# Altium footprint library DZ_LIB.PcbLib: 89 footprints (part 3 of 6)
Each footprint in its own frame and in the unit in brackets; x right, y up, seen from the top. Pads: shape width x height; smd on the part's side, far side on the other; paste and mask are expansions set on the pad; w line width, h text height; cw(c..) or ccw(c..) is an arc to the next point about the centre after c.
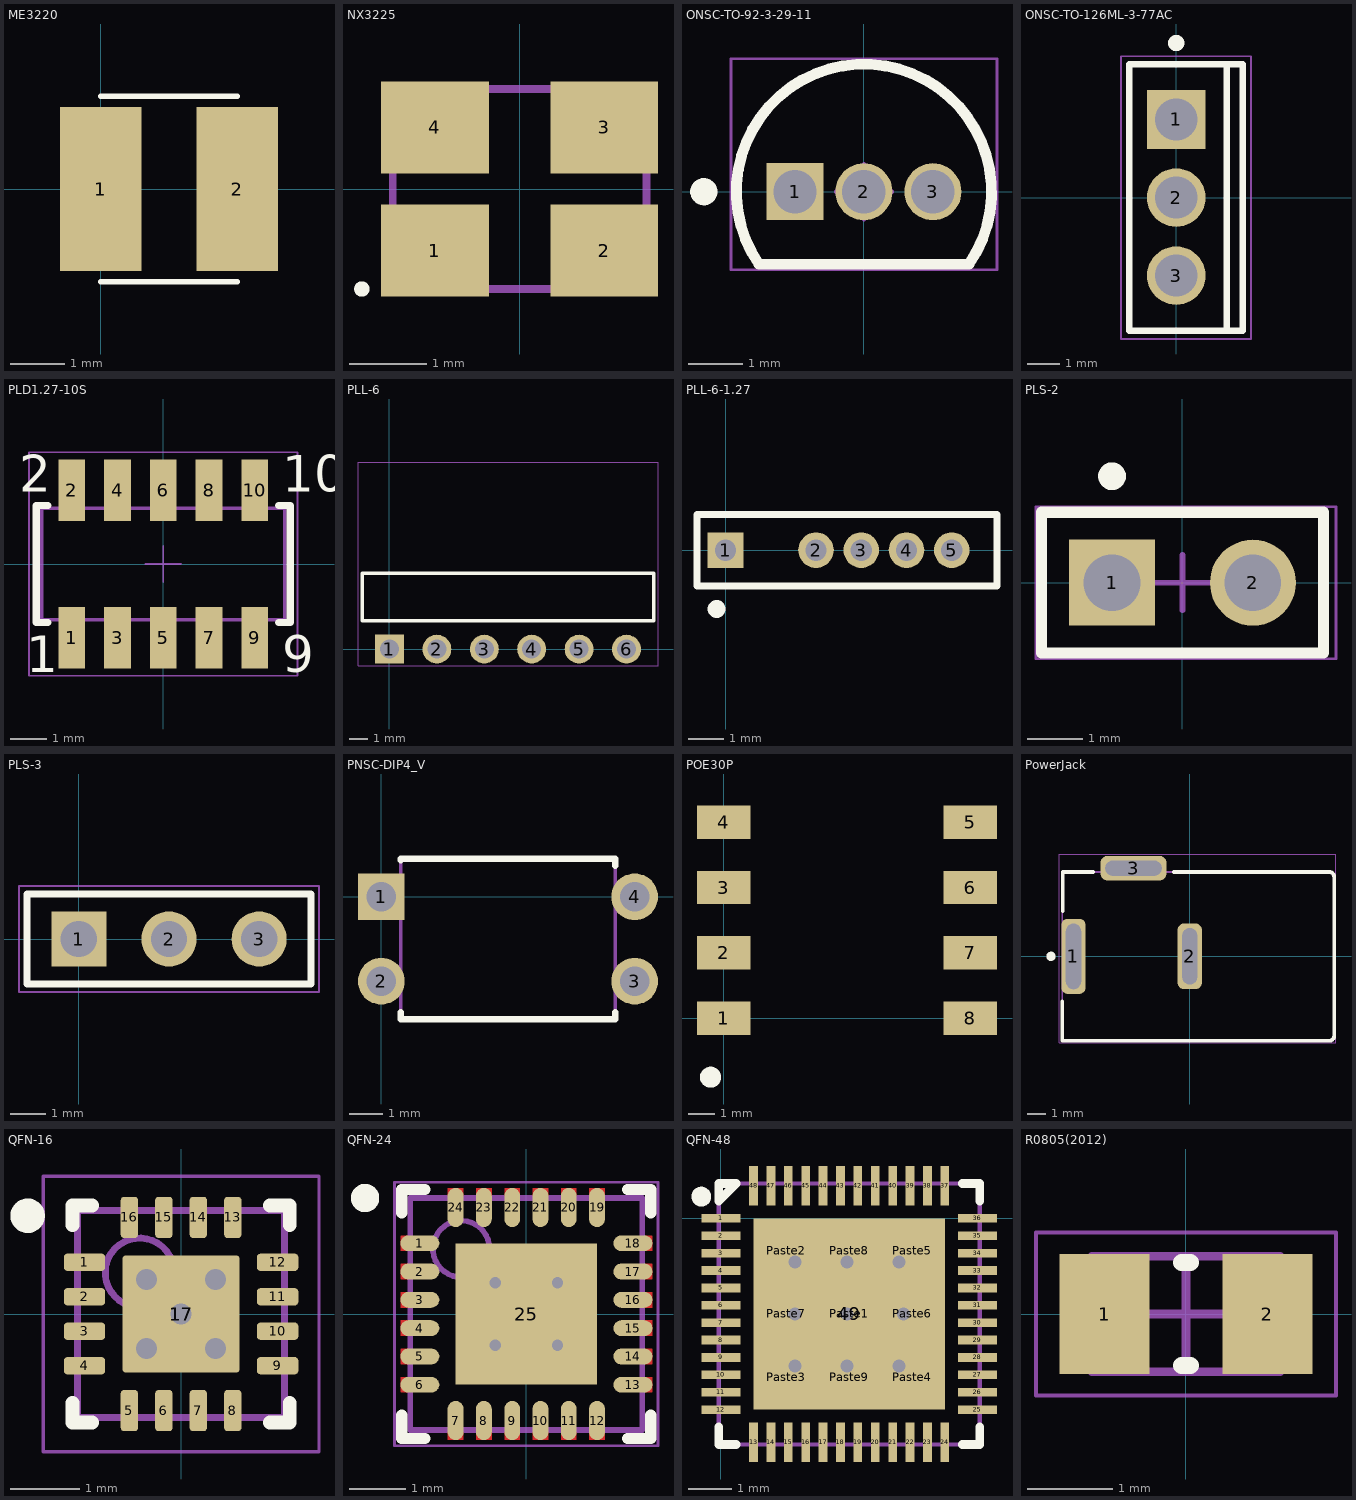
[diagram p2: the footprints below, top view; thin cyan lines are the x and y axes]

## ME3220 [mm]
pads (2):
  rect 1.5x3 smd: 1(0,0) 2(2.5,0)
Top Overlay:
  lines w0.1: 0,-1.7 2.5,-1.7 ; 0,1.7 2.5,1.7
3D body "Coilcraft-ME3220.step": height 2.4, standoff 0, extent -0.5,-1.4 3,1.4

## NX3225 [mm]
height 0.9
pads (4):
  rect 1.4x1.2 smd: 1(-1.1,-0.8) 2(1.1,-0.8) 3(1.1,0.8) 4(-1.1,0.8)
Top Overlay:
  circle w0.1: c-2.05,-1.3 r0.05
Mechanical 1:
  circle w0.254: c-1.3,-0.9 r0.1
  lines w0.1: -1.65,-1.3 1.65,-1.3 1.65,1.3 -1.65,1.3 -1.65,-1.3
3D body: height 0.9, standoff 0, extent -1.65,-1.3 1.65,1.3

## ONSC-TO-92-3-29-11 [mm] "TO, 3-Leads, Body Dia 4.7mm, Pitch 1.27mm"
height 7.87
pads (3):
  rect 1.05x1.05 hole 0.8: 1(-1.27,0)
  round 1.05 hole 0.8: 2(0,0) 3(1.27,0)
Top Overlay:
  circle w0.25: c-2.95,0 r0.125
  lines w0.2: -1.934,-1.335 cw(c0,0) 1.934,-1.335 -1.934,-1.335
Mechanical 13:
  lines w0.1: -1.934,-1.335 cw(c0,0) 1.934,-1.335 -1.934,-1.335
Mechanical 15:
  lines w0.05: -2.45,-1.435 -2.45,2.45 2.45,2.45 2.45,-1.435 -2.45,-1.435
  lines w0.1: -0.5,0 0.5,0 ; 0,-0.5 0,0.5
3D body: height 7.87, standoff 2.54, extent -2.349,-1.334 2.357,2.359

## ONSC-TO-126ML-3-77AC [mm] "FM, 3-Leads, Body 8.2x3.5mm, Pitch 2.4mm"
height 12.5
pads (3):
  rect 1.8x1.8 hole 1.3: 1(0,2.4)
  round 1.8 hole 1.3: 2(0,0) 3(0,-2.4)
Top Overlay:
  circle w0.25: c0,4.75 r0.125
  lines w0.2: 1.55,-4.1 1.55,4.1 ; -1.45,-4.1 2.05,-4.1 2.05,4.1 -1.45,4.1 -1.45,-4.1
Mechanical 13:
  lines w0.1: 2.05,-4.1 2.05,4.1 ; 2.05,-4.1 -1.45,-4.1 -1.45,4.1 2.05,4.1 ; 2.05,-4.1 2.05,4.1
Mechanical 15:
  lines w0.05: -1.7,-4.35 -1.7,4.35 2.3,4.35 2.3,-4.35 -1.7,-4.35
  lines w0.1: -0.5,0 0.5,0 ; 0,-0.5 0,0.5
3D body: height 1.2, standoff 0, extent -0.35,1.6 0.35,3.2
3D body: height 0, standoff -1.6, extent -0.35,2 0.35,2.8
3D body: height 1.2, standoff 0, extent -0.35,-0.8 0.35,0.8
3D body: height 0, standoff -1.6, extent -0.35,-0.4 0.35,0.4
3D body: height 1.2, standoff 0, extent -0.35,-3.2 0.35,-1.6
3D body: height 0, standoff -1.6, extent -0.35,-2.8 0.35,-2
3D body: height 12.5, standoff 1.2, extent -1.45,-4.1 2.05,4.1
3D body: height 13.1, standoff 13.1, extent 2.05,-4 2.05,4

## PLD1.27-10S [mm] "Socket Header, Pitch 1.27 mm, SMT, Vertical, dual row, 10p"
height 4.7
pads (10):
  rect 0.74x1.7 smd: 1(-2.54,-2.05) 2(-2.54,2.05) 3(-1.27,-2.05) 4(-1.27,2.05) 5(0,-2.05) 6(0,2.05) 7(1.27,-2.05) 8(1.27,2.05) 9(2.54,-2.05) 10(2.54,2.05)
Top Overlay:
  lines w0.2: -3.205,-1.625 -3.525,-1.625 -3.525,1.625 -3.205,1.625 ; 3.205,-1.625 3.525,-1.625 3.525,1.625 3.205,1.625
  text "2" at -4.005,2 h1.02
  text "1" at -3.805,-3 h1.02
  text "9" at 3.305,-3 h1.02
  text "10" at 3.305,2 h1.02
Mechanical 13:
  lines w0.1: -2.79,-1.55 -2.79,-2.3 -2.29,-2.3 -2.29,-1.55 ; -2.79,1.55 -2.79,2.3 -2.29,2.3 -2.29,1.55 ; -1.52,-1.55 -1.52,-2.3 -1.02,-2.3 -1.02,-1.55 ; -1.52,1.55 -1.52,2.3 -1.02,2.3 -1.02,1.55 ; -0.25,-1.55 -0.25,-2.3 0.25,-2.3 0.25,-1.55 ; -0.25,1.55 -0.25,2.3 0.25,2.3 0.25,1.55 ; 1.02,-1.55 1.02,-2.3 1.52,-2.3 1.52,-1.55 ; 1.02,1.55 1.02,2.3 1.52,2.3 1.52,1.55 ; 2.29,-1.55 2.29,-2.3 2.79,-2.3 2.79,-1.55 ; 2.29,1.55 2.29,2.3 2.79,2.3 2.79,1.55 ; -3.375,-1.55 3.375,-1.55 3.375,1.55 -3.375,1.55 -3.375,-1.55
Mechanical 15:
  lines w0.05: -0.5,0 0.5,0 ; 0,-0.5 0,0.5 ; -3.725,-3.1 -3.725,3.1 3.725,3.1 3.725,-3.1 -3.725,-3.1
3D body "62301021021.stp": height 4.6, standoff 0, extent -3.375,-2.299 3.375,2.299

## PLL-6 [mm] ".025 SQ Post Terminal Strip Assembly, 1x6 Pins, Right Angle, 2.54mm Pitch, Male"
height 3.02
pads (6):
  rect 1.55x1.55 hole 1.02: 1(0,0)
  round 1.55 hole 1.02: 2(2.54,0) 3(5.08,0) 4(7.62,0) 5(10.16,0) 6(12.7,0)
Top Overlay:
  lines w0.2: -1.46,1.52 -1.46,4.06 14.16,4.06 14.16,1.52 -1.46,1.52
Mechanical 13:
  lines w0.1: -1.46,1.52 -1.46,4.06 14.16,4.06 14.16,1.52 -1.46,1.52
Mechanical 15:
  lines w0.05: -1.685,-0.9 -1.685,10.025 14.385,10.025 14.385,-0.9 -1.685,-0.9
3D body "TSW-106-08-X-S-RA.step": height 3.05, standoff -2.29, extent -1.27,-0.323 13.97,9.9

## PLL-6-1.27 [mm] "Male Header, Pitch 1.27mm, 1x6"
height 4.3
pads (5):
  rect 1x1 hole 0.6: 1(0,0)
  round 1 hole 0.6: 2(2.54,0) 3(3.81,0) 4(5.08,0) 5(6.35,0)
Top Overlay:
  circle w0.25: c-0.252,-1.65 r0.125
  lines w0.2: -0.8,-1 -0.8,1 7.62,1 7.62,-1 -0.8,-1

## PLS-2 [mm] "Header, 2-Leads, Body 5.08x2.54mm, Pitch 2.54mm"
height 8.38
pads (2):
  rect 1.55x1.55 hole 1.02: 1(-1.27,0)
  round 1.55 hole 1.02: 2(1.27,0)
Top Overlay:
  circle w0.25: c-1.27,1.92 r0.125
  lines w0.2: -2.54,-1.27 2.54,-1.27 2.54,1.27 -2.54,1.27 -2.54,-1.27
Mechanical 13:
  lines w0.1: -2.54,-1.27 2.54,-1.27 2.54,1.27 -2.54,1.27 -2.54,-1.27
Mechanical 15:
  lines w0.05: -2.64,-1.37 -2.64,1.37 2.767,1.37 2.767,-1.37 -2.64,-1.37
  lines w0.1: -0.5,0 0.5,0 ; 0,-0.5 0,0.5
3D body "TSW-102-07-S-S.stp": height 8.38, standoff -2.54, extent -2.54,-1.27 2.667,1.27

## PLS-3 [mm] ".025 SQ Post Terminal Strip Assembly, 1x3 Pins, Vertical, 2.54mm Pitch, Male"
height 8.58
pads (3):
  rect 1.55x1.55 hole 1.02: 1(0,0)
  round 1.55 hole 1.02: 2(2.54,0) 3(5.08,0)
Top Overlay:
  lines w0.2: -1.46,-1.27 6.54,-1.27 6.54,1.27 -1.46,1.27 -1.46,-1.27
Mechanical 13:
  lines w0.1: -1.46,-1.27 6.54,-1.27 6.54,1.27 -1.46,1.27 -1.46,-1.27
Mechanical 15:
  lines w0.05: -1.685,-1.495 6.765,-1.495 6.765,1.495 -1.685,1.495 -1.685,-1.495
3D body "TSW-103-07-X-S.step": height 8.38, standoff -2.54, extent -1.27,-1.27 6.35,1.27

## PNSC-DIP4_V [mm] "DIP, 4-Leads, Body 6.45x4.83mm, Pitch2.54 mm"
height 3.4
pads (4):
  rect 1.4x1.4 hole 0.9 mask+0.102: 1(0,0)
  round 1.4 hole 0.9 mask+0.102: 2(0,-2.54) 3(7.62,-2.54) 4(7.62,0)
Top Overlay:
  lines w0.2: 0.585,-3.472 0.585,-3.685 7.035,-3.685 7.035,-3.472 ; 0.585,1.1 0.585,1.145 7.035,1.145 7.035,0.932
Mechanical 13:
  lines w0.1: 0.585,-3.685 7.035,-3.685 7.035,1.145 0.585,1.145 0.585,-3.685
3D body: height 3.4, standoff 0.2, extent 0.585,-3.685 7.035,1.145

## POE30P [mil]
pads (8):
  rect 80x50 smd: 1(0,0) 2(0,98) 3(0,196) 4(0,294) 5(370,294) 6(370,196) 7(370,98) 8(370,0)
Top Overlay:
  circle w15.75: c-19.68,-88.58 r7.87
3D body "Coilcraft-POE30P-50L.step": height 355.12, standoff 0, extent -67.01,-67.33 452.68,362.6

## PowerJack [mm] "Power Jack, 3-Leads, Body 14.5x9mm"
height 11.1
pads (3):
  rrect50% 1.3x4 hole 0.8 slot 3.5 at 90 deg: 1(-6.2,0)
  rrect50% 1.3x3.5 hole 0.8 slot 3 at 90 deg: 2(0,0)
  rrect50% 3.5x1.3 hole 0.8 slot 3 at 0 deg: 3(-3,4.7)
Top Overlay:
  circle w0.25: c-7.4,0 r0.125
  lines w0.2: -6.8,-4.5 -6.8,-2.4 ; -6.78,-4.5 7.45,-4.5 ccw(c7.45,-4.25) 7.7,-4.25 7.7,4.25 ccw(c7.45,4.25) 7.45,4.5 -0.85,4.5 ; -6.78,2.4 -6.78,4.5 -5.15,4.5
Mechanical 13:
  lines w0.1: -6.8,-4.5 -6.8,4.5 7.45,4.5 cw(c7.45,4.25) 7.7,4.25 7.7,-4.25 cw(c7.45,-4.25) 7.45,-4.5 -6.8,-4.5
Mechanical 15:
  lines w0.05: -6.95,-4.6 7.8,-4.6 7.8,5.45 -6.95,5.45 -6.95,-4.6
  lines w0.1: -0.5,0 0.5,0 ; 0,-0.5 0,0.5
3D body "KLDX-0202-A_rD2.STEP": height 10.8, standoff -4.1, extent -6.8,-4.5 7.7,4.9

## QFN-16 [mm] "QFN, 16-Leads, Body 3x3mm, Pitch 0.5mm, Thermal Pad 1.65x1.65mm"
height 1
pads (18):
  rrect40% 0.6x0.25 smd: 1(-1.4,0.75) 2(-1.4,0.25) 3(-1.4,-0.25) 4(-1.4,-0.75) 9(1.4,-0.75) 10(1.4,-0.25) 11(1.4,0.25) 12(1.4,0.75)
  rrect40% 0.25x0.6 smd: 5(-0.75,-1.4) 6(-0.25,-1.4) 7(0.25,-1.4) 8(0.75,-1.4) 13(0.75,1.4) 14(0.25,1.4) 15(-0.25,1.4) 16(-0.75,1.4)
  rrect6% 1.55x1.55 on Top Paste: 17(0,0)
  rrect6% 1.7x1.7 smd paste-0.85: 17(0,0)
via -0.5,-0.5 diameter 0.5 hole 0.3
via -0.5,0.5 diameter 0.5 hole 0.3
via 0.5,0.5 diameter 0.5 hole 0.3
via 0.5,-0.5 diameter 0.5 hole 0.3
via 0,0 diameter 0.5 hole 0.3
Top Overlay:
  circle w0.25: c-2.225,1.425 r0.125
  lines w0.2: -1.575,-1.29 -1.575,-1.575 -1.29,-1.575 ; -1.575,1.29 -1.575,1.575 -1.29,1.575 ; 1.29,-1.575 1.575,-1.575 1.575,-1.29 ; 1.29,1.575 1.575,1.575 1.575,1.29
Mechanical 13:
  circle w0.1: c-0.6,0.6 r0.5
  lines w0.1: -1.5,-1.5 -1.5,1.5 1.5,1.5 1.5,-1.5 -1.5,-1.5
Mechanical 15:
  lines w0.05: -2,-2 -2,2 2,2 2,-2 -2,-2
  lines w0.1: -0.5,0 0.5,0 ; 0,-0.5 0,0.5
3D body: height 1, standoff 0, extent -1.5,-1.5 1.5,1.5

## QFN-24 [mm] "QFN, 24-Leads, Body 4.1x4.1mm, Pitch 0.5mm, Thermal Pad 2.50x2.50mm"
height 1
pads (25):
  oval 0.69x0.28 smd: 1(-1.882,1.25) 2(-1.882,0.75) 3(-1.882,0.25) 4(-1.882,-0.25) 5(-1.882,-0.75) 6(-1.882,-1.25) 13(1.883,-1.25) 14(1.883,-0.75) 15(1.883,-0.25) 16(1.883,0.25) 17(1.883,0.75) 18(1.883,1.25)
  oval 0.28x0.69 smd: 7(-1.25,-1.882) 8(-0.75,-1.882) 9(-0.25,-1.882) 10(0.25,-1.882) 11(0.75,-1.882) 12(1.25,-1.882) 19(1.25,1.883) 20(0.75,1.883) 21(0.25,1.883) 22(-0.25,1.883) 23(-0.75,1.883) 24(-1.25,1.883)
  rect 2.5x2.5 smd paste-2: 25(0,0)
via 0.55,-0.55 diameter 0.5 hole 0.2
via -0.55,-0.55 diameter 0.5 hole 0.2
via 0.55,0.55 diameter 0.5 hole 0.2
via -0.55,0.55 diameter 0.5 hole 0.2
Top Layer:
  region: -2.087,1.11 -2.087,1.39 -2.227,1.39 -2.227,1.11
  region: -2.087,0.61 -2.087,0.89 -2.227,0.89 -2.227,0.61
  region: -2.087,0.11 -2.087,0.39 -2.227,0.39 -2.227,0.11
  region: -2.087,-0.39 -2.087,-0.11 -2.227,-0.11 -2.227,-0.39
  region: -2.087,-0.89 -2.087,-0.61 -2.227,-0.61 -2.227,-0.89
  region: -2.087,-1.39 -2.087,-1.11 -2.227,-1.11 -2.227,-1.39
  region: -1.11,-2.087 -1.39,-2.087 -1.39,-2.227 -1.11,-2.227
  region: -0.61,-2.087 -0.89,-2.087 -0.89,-2.227 -0.61,-2.227
  region: -0.11,-2.087 -0.39,-2.087 -0.39,-2.227 -0.11,-2.227
  region: 0.39,-2.087 0.11,-2.087 0.11,-2.227 0.39,-2.227
  region: 0.89,-2.087 0.61,-2.087 0.61,-2.227 0.89,-2.227
  region: 1.39,-2.087 1.11,-2.087 1.11,-2.227 1.39,-2.227
  region: 2.088,-1.11 2.088,-1.39 2.228,-1.39 2.228,-1.11
  region: 2.088,-0.61 2.088,-0.89 2.228,-0.89 2.228,-0.61
  region: 2.088,-0.11 2.088,-0.39 2.228,-0.39 2.228,-0.11
  region: 2.088,0.39 2.088,0.11 2.228,0.11 2.228,0.39
  region: 2.088,0.89 2.088,0.61 2.228,0.61 2.228,0.89
  region: 2.088,1.39 2.088,1.11 2.228,1.11 2.228,1.39
  rectangle: -1.39,2.088 -1.11,2.228
  rectangle: -0.89,2.088 -0.61,2.228
  rectangle: -0.39,2.088 -0.11,2.228
  rectangle: 0.11,2.088 0.39,2.228
  rectangle: 0.61,2.088 0.89,2.228
  rectangle: 1.11,2.088 1.39,2.228
Top Overlay:
  circle w0.25: c-2.85,2.05 r0.125
  lines w0.2: -2.2,-1.79 -2.2,-2.2 -1.79,-2.2 ; -2.2,1.79 -2.2,2.2 -1.79,2.2 ; 1.79,-2.2 2.2,-2.2 2.2,-1.79 ; 1.79,2.2 2.2,2.2 2.2,1.79
Top Paste:
  region: 1.25,-1.25 1.25,-0.1 0.1,-0.1 0.1,-1.25
  region: 1.25,0.1 1.25,1.25 0.1,1.25 0.1,0.1
  region: -0.1,0.1 -0.1,1.25 -1.25,1.25 -1.25,0.1
  region: -0.1,-1.25 -0.1,-0.1 -1.25,-0.1 -1.25,-1.25
Mechanical 13:
  circle w0.1: c-1.15,1.15 r0.5
  lines w0.1: -2.05,-2.05 2.05,-2.05 2.05,2.05 -2.05,2.05 -2.05,-2.05
Mechanical 15:
  lines w0.05: -2.327,-2.327 -2.327,2.328 2.328,2.328 2.328,-2.325 2.325,-2.327 -2.327,-2.327
  lines w0.1: -0.5,0 0.5,0 ; 0,-0.5 0,0.5
3D body: height 1, standoff 0, extent -2.05,-2.05 2.05,2.05

## QFN-48 [mm] "48 Pin QFN"
pads (58):
  rect 0.9x0.2 smd mask+0.05: 1(0,0) 2(0,-0.4) 3(0,-0.8) 4(0,-1.2) 5(0,-1.6) 6(0,-2) 7(0,-2.4) 8(0,-2.8) 9(0,-3.2) 10(0,-3.6) 11(0,-4) 12(0,-4.4) 25(5.9,-4.4) 26(5.9,-4) 27(5.9,-3.6) 28(5.9,-3.2) 29(5.9,-2.8) 30(5.9,-2.4) 31(5.9,-2) 32(5.9,-1.6) 33(5.9,-1.2) 34(5.9,-0.8) 35(5.9,-0.4) 36(5.9,0)
  rect 0.2x0.9 smd mask+0.05: 13(0.75,-5.15) 14(1.15,-5.15) 15(1.55,-5.15) 16(1.95,-5.15) 17(2.35,-5.15) 18(2.75,-5.15) 19(3.15,-5.15) 20(3.55,-5.15) 21(3.95,-5.15) 22(4.35,-5.15) 23(4.75,-5.15) 24(5.15,-5.15) 37(5.15,0.75) 38(4.75,0.75) 39(4.35,0.75) 40(3.95,0.75) 41(3.55,0.75) 42(3.15,0.75) 43(2.75,0.75) 44(2.35,0.75) 45(1.95,0.75) 46(1.55,0.75) 47(1.15,0.75) 48(0.75,0.75)
  rect 4.4x4.4 smd paste-4.4 mask+0.05: 49(2.95,-2.2)
  rect 1.3x1.3 on Top Paste mask+0.05: Paste1(2.95,-2.2) Paste2(1.5,-0.75) Paste3(1.5,-3.65) Paste4(4.4,-3.65) Paste5(4.4,-0.75) Paste6(4.4,-2.2) Paste7(1.5,-2.2) Paste8(2.95,-0.75) Paste9(2.95,-3.65)
via 4.1,-1 diameter 0.6 hole 0.3
via 1.7,-1 diameter 0.6 hole 0.3
via 4.1,-3.4 diameter 0.6 hole 0.3
via 2.9,-3.4 diameter 0.6 hole 0.3
via 1.7,-3.4 diameter 0.6 hole 0.3
via 1.7,-2.2 diameter 0.6 hole 0.3
via 4.2,-2.2 diameter 0.6 hole 0.3
via 2.9,-2.2 diameter 0.6 hole 0.3
via 2.9,-1 diameter 0.6 hole 0.3
Top Overlay:
  circle w0.254: c-0.45,0.5 r0.1
  lines w0.2: -0.05,-4.8 -0.05,-5.2 0.35,-5.2 ; 5.55,-5.2 5.95,-5.2 5.95,-4.8 ; 5.55,0.8 5.95,0.8 5.95,0.4 ; -0.05,0.4 0.35,0.8 -0.05,0.8 -0.05,0.4
Mechanical 13:
  lines w0.1: -0.05,-5.2 5.95,-5.2 5.95,0.8 -0.05,0.8 -0.05,-5.2
3D body: height 1, standoff 0, extent -0.05,-5.2 5.95,0.8

## R0805(2012) [mm] "Chip Resistor, Body 2.0x1.3mm, IPC Medium Density"
height 0.7
pads (2):
  rect 1.05x1.4 smd: 1(-0.95,0) 2(0.95,0)
Top Overlay:
  lines w0.2: -0.05,-0.6 0.05,-0.6 ; -0.05,0.6 0.05,0.6
Mechanical 13:
  lines w0.1: -1.1,-0.675 1.1,-0.675 1.1,0.675 -1.1,0.675 -1.1,-0.675
Mechanical 15:
  lines w0.05: -1.75,-0.95 1.75,-0.95 1.75,0.95 -1.75,0.95 -1.75,-0.95
  lines w0.1: -0.5,0 0.5,0 ; 0,-0.5 0,0.5
3D body: height 0.7, standoff 0, extent -1.1,-0.675 -0.68,0.675
3D body: height 0.7, standoff 0, extent -0.68,-0.675 0.68,0.675
3D body: height 0.7, standoff 0, extent 0.68,-0.675 1.1,0.675